# Altium footprint library ATmega162.PcbLib: 9 footprints
Each footprint in its own frame and in the unit in brackets; x right, y up, seen from the top. Pads: shape width x height; smd on the part's side, far side on the other; paste and mask are expansions set on the pad; w line width, h text height; cw(c..) or ccw(c..) is an arc to the next point about the centre after c.
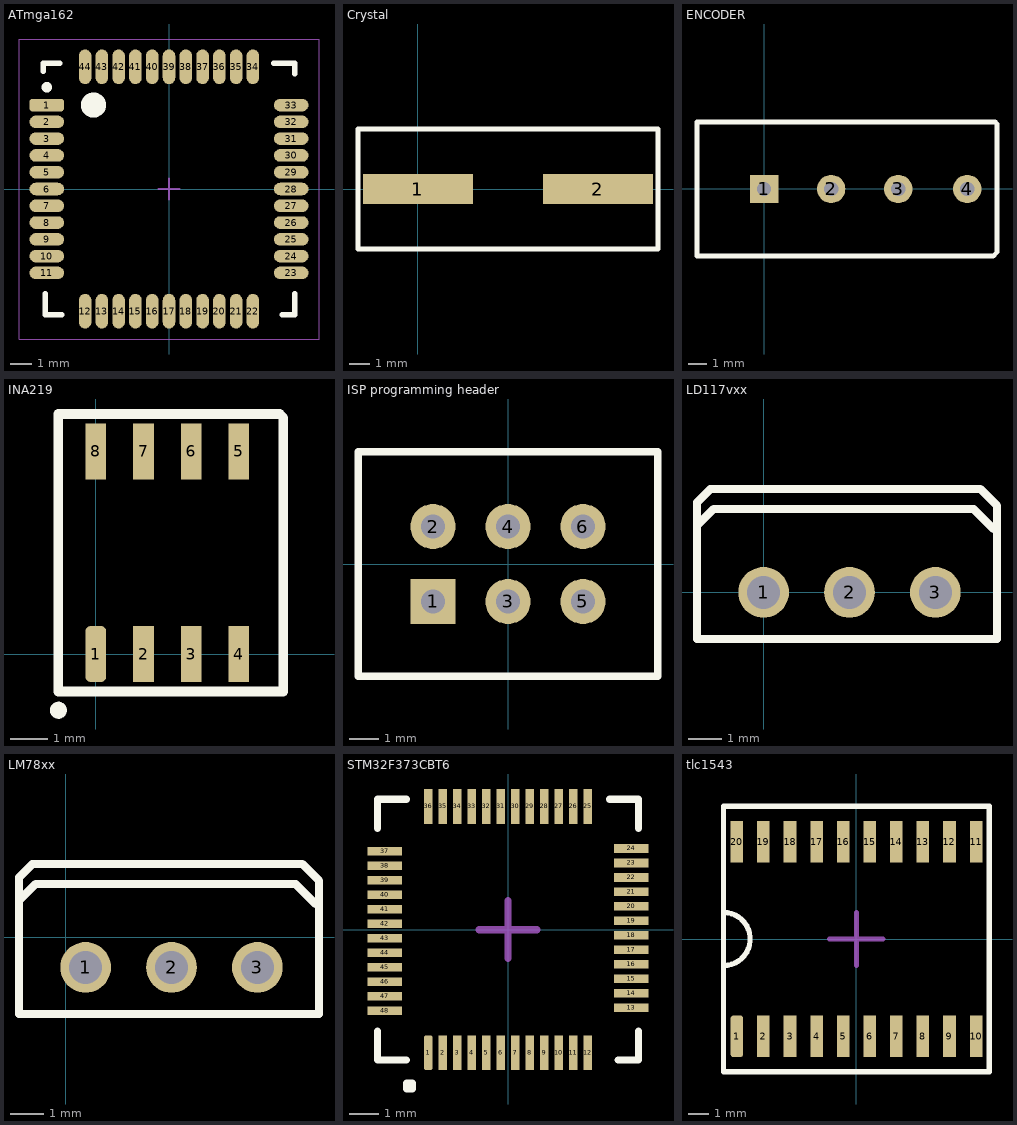
[diagram p0: the footprints below, top view; thin cyan lines are the x and y axes]

## ATmga162 [mm] "ATmga162 TQPF"
height 1.2
pads (44):
  rrect50% 1.65x0.6 smd: 1(-5.825,4)
  oval 1.65x0.6 smd: 2(-5.825,3.2) 3(-5.825,2.4) 4(-5.825,1.6) 5(-5.825,0.8) 6(-5.825,0) 7(-5.825,-0.8) 8(-5.825,-1.6) 9(-5.825,-2.4) 10(-5.825,-3.2) 11(-5.825,-4) 23(5.825,-4) 24(5.825,-3.2) 25(5.825,-2.4) 26(5.825,-1.6) 27(5.825,-0.8) 28(5.825,0) 29(5.825,0.8) 30(5.825,1.6) 31(5.825,2.4) 32(5.825,3.2) 33(5.825,4)
  oval 0.6x1.65 smd: 12(-4,-5.825) 13(-3.2,-5.825) 14(-2.4,-5.825) 15(-1.6,-5.825) 16(-0.8,-5.825) 17(0,-5.825) 18(0.8,-5.825) 19(1.6,-5.825) 20(2.4,-5.825) 21(3.2,-5.825) 22(4,-5.825) 34(4,5.825) 35(3.2,5.825) 36(2.4,5.825) 37(1.6,5.825) 38(0.8,5.825) 39(0,5.825) 40(-0.8,5.825) 41(-1.6,5.825) 42(-2.4,5.825) 43(-3.2,5.825) 44(-4,5.825)
Top Overlay:
  circle w0.6: c-3.6,4 r0.3
  circle w0.25: c-5.825,4.85 r0.125
  lines w0.254: -6,5.6 -6,6 -5.2,6 ; -5.9,-5 -5.9,-6 -5.1,-6 ; 5,6 6,6 6,5.5 ; 5.4,-6 6,-6 6,-5
Mechanical 15:
  lines w0.05: -7.15,-7.15 7.15,-7.15 7.15,7.15 -7.15,7.15 -7.15,-7.15
  lines w0.1: -0.5,0 0.5,0 ; 0,-0.5 0,0.5
3D body "TQFP-44.STEP": height 1.1, standoff 0, extent -6,-6 6,6

## Crystal [mm]
pads (2):
  rect 5.5x1.5 smd: 1(0,0) 2(9,0)
Top Overlay:
  lines w0.254: -3,-3 -3,0 -3,3 12,3 12,-3 -3,-3
3D body "User Library-HC49US.STEP": height 4.2, standoff 0, extent -1.85,-2.3 10.85,2.4

## ENCODER [mil]
pads (4):
  rect 60x60 hole 30: 1(0,0)
  round 60 hole 30: 2(141.73,0) 3(283.46,0) 4(429.13,0)
Top Overlay:
  lines w10: -141.73,-141.73 484.25,-141.73 492.13,-133.86 492.13,137.8 488.19,141.73 -141.73,141.73 -141.73,0 -141.73,-141.73
3D body: height 118.11, standoff -78.74, extent -11.71,-11.78 11.82,11.8
3D body: height 118.11, standoff -78.74, extent 130.02,-3.91 153.55,19.67
3D body: height 118.11, standoff -78.74, extent 271.75,-11.78 295.28,11.8
3D body: height 118.11, standoff -78.74, extent 417.42,-11.78 440.95,11.8

## INA219 [mm]
pads (8):
  rrect50% 0.55x1.5 smd: 1(0,0)
  rect 0.55x1.5 smd: 2(1.27,0) 3(2.54,0) 4(3.81,0) 5(3.81,5.4) 6(2.54,5.4) 7(1.27,5.4) 8(0,5.4)
Top Overlay:
  circle w0.254: c-1,-1.5 r0.1
  lines w0.254: -1,-1 -1,6.4 4.9,6.4 5,6.3 5,-1 -1,-1
3D body "SOIC8.SLDPRT": height 1.75, standoff -0.01, extent -0.6,-0.4 4.4,5.8

## ISP programming header [mil]
pads (6):
  rect 60x60 hole 31.5: 1(-100,-50)
  round 60 hole 31.5: 2(-100,50) 3(0,-50) 4(0,50) 5(100,-50) 6(100,50)
Top Overlay:
  lines w10: -200,-150 200,-150 200,150 -200,150 -200,50 -200,-150
3D body "AtmelISp.step": height 314.96, standoff -118.11, extent -149.61,-100 150.39,100

## LD117vxx [mil] "TO-220"
pads (3):
  round 60 hole 38.98: 1(0,0) 2(101.38,0) 3(202.76,0)
Top Overlay:
  lines w10: 271.65,74.8 248.03,98.43 -59.06,98.43 -78.74,78.74 ; -78.74,78.74 -78.74,78.74 ; -78.74,-55.12 275.59,-55.12 275.59,102.36 255.91,122.05 -62.99,122.05 -78.74,106.3 -78.74,-55.12
3D body "CircuitWorks-TO-220HS.step": height 769.37, standoff -110.63, extent -98.62,-55.12 301.38,124.88

## LM78xx [mm]
pads (3):
  round 1.524 hole 0.99: 1(0.6,-0.9) 2(3.175,-0.9) 3(5.75,-0.9)
Top Overlay:
  lines w0.254: 7.5,1 6.9,1.6 -0.9,1.6 -1.4,1.1 ; -1.4,1.1 -1.4,1.1 ; -1.4,-2.3 -1.4,1.8 -1,2.2 7.1,2.2 7.6,1.7 7.6,-2.3 -1.4,-2.3
3D body "CircuitWorks-TO-220HS.step": height 19.54, standoff -2.81, extent -1.905,-2.3 8.255,2.272

## STM32F373CBT6 [mm] "STM32F373CBT6"
pads (48):
  rrect50% 0.3x1.2 smd: 1(-2.75,-4.25)
  rect 0.3x1.2 smd: 2(-2.25,-4.25) 3(-1.75,-4.25) 4(-1.25,-4.25) 5(-0.75,-4.25) 6(-0.25,-4.25) 7(0.25,-4.25) 8(0.75,-4.25) 9(1.25,-4.25) 10(1.75,-4.25) 11(2.25,-4.25) 12(2.75,-4.25) 25(2.75,4.25) 26(2.25,4.25) 27(1.75,4.25) 28(1.25,4.25) 29(0.75,4.25) 30(0.25,4.25) 31(-0.25,4.25) 32(-0.75,4.25) 33(-1.25,4.25) 34(-1.75,4.25) 35(-2.25,4.25) 36(-2.75,4.25)
  rect 1.2x0.3 smd: 13(4.25,-2.7) 14(4.25,-2.2) 15(4.25,-1.7) 16(4.25,-1.2) 17(4.25,-0.7) 18(4.25,-0.2) 19(4.25,0.3) 20(4.25,0.8) 21(4.25,1.3) 22(4.25,1.8) 23(4.25,2.3) 24(4.25,2.8) 37(-4.25,2.7) 38(-4.25,2.2) 39(-4.25,1.7) 40(-4.25,1.2) 41(-4.25,0.7) 42(-4.25,0.2) 43(-4.25,-0.3) 44(-4.25,-0.8) 45(-4.25,-1.3) 46(-4.25,-1.8) 47(-4.25,-2.3) 48(-4.25,-2.8)
Top Overlay:
  lines w0.254: -4.5,-3.5 -4.5,-4.5 -3.5,-4.5 ; -4.5,3.5 -4.5,4.5 -3.5,4.5 ; 3.5,4.5 4.5,4.5 4.5,3.5 ; 3.8,-4.5 4.5,-4.5 4.5,-3.5 ; -3.5,-5.5 -3.5,-5.3 -3.3,-5.3 -3.3,-5.5 -3.5,-5.5
Mechanical 15:
  lines w0.254: -1,0 1,0 ; 0,-1 0,1
3D body "User Library-P-LQFP48-7x7-0_50.step": height 1.45, standoff 0, extent -4.5,-4.5 4.5,4.5

## tlc1543 [mm] "SOIC"
pads (20):
  rrect50% 0.6x2 smd: 1(-5.715,-4.65)
  rect 0.6x2 smd: 2(-4.445,-4.65) 3(-3.175,-4.65) 4(-1.905,-4.65) 5(-0.635,-4.65) 6(0.635,-4.65) 7(1.905,-4.65) 8(3.175,-4.65) 9(4.445,-4.65) 10(5.715,-4.65) 11(5.715,4.65) 12(4.445,4.65) 13(3.175,4.65) 14(1.905,4.65) 15(0.635,4.65) 16(-0.635,4.65) 17(-1.905,4.65) 18(-3.175,4.65) 19(-4.445,4.65) 20(-5.715,4.65)
Top Overlay:
  lines w0.254: -6.35,-1.27 ccw(c-6.35,0) -6.35,1.27 ; -6.35,-6.35 6.35,-6.35 6.35,6.35 -6.35,6.35 -6.35,-6.35
Mechanical 15:
  lines w0.254: -1.27,0 1.27,0 ; 0,-1.27 0,1.27
3D body "User Library-SOIC.step": height 1.7, standoff 0, extent -6.208,-5.321 6.238,5.321